# Altium schematic symbol library WE-SPXO.SchLib: 233 symbols (part 2 of 4)
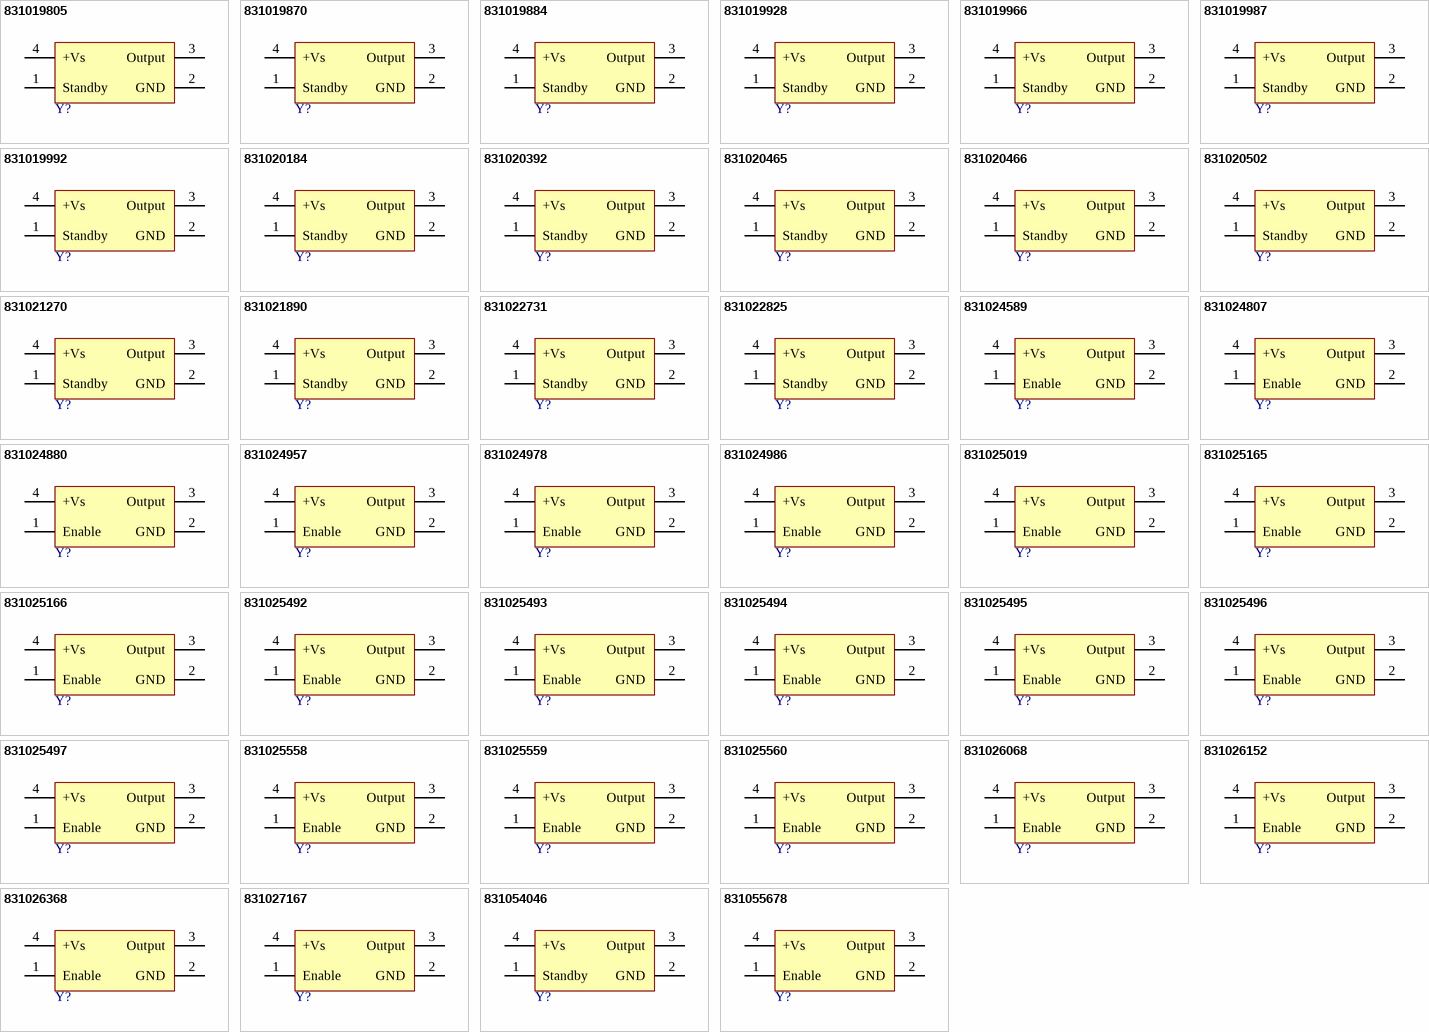
[diagram p6: symbols 831019805 to 831055678]

## 831024986
designator Y?, comment 24MHz, 3.3V  (value not drawn)
WE-SPXO Simple Packaged Quartz Oscillator, SMT, CFPS-9, 24MHz, 3.3V; Manufacturer Part Number: 831024986; Manufacturer: Wurth Elektronik; Frequency Stability: +/-50ppm; ComponentLink1Description: Website Link; ComponentLink1URL: https://www.we-online.com/redexpert/article/831024986?ad; ComponentLink2Description: Datasheet Link; ComponentLink2URL: https://www.we-online.com/redexpert/spec/831024986?ad; Category: Oscillators; Match Code: WE-SPXO; Mount: Surface Mount; Operating Temperature Max: 85°C; Operating Temperature Min: -40°C; Packaging: Tape and Reel; Case/Size Code: CFPS-9; Length: 5.2mm; Width: 3.4mm; Height: 1.3mm; Frequency: 24MHz; Supply Voltage: 3.3V
footprint WE-SPXO_CFPS-9
pins: 1 Enable, 2 GND, 3 Output, 4 +Vs

## 831025019
designator Y?, comment 32MHz, 3.3V  (value not drawn)
WE-SPXO Simple Packaged Quartz Oscillator, SMT, CFPS-39, 32MHz, 3.3V; Manufacturer Part Number: 831025019; Manufacturer: Wurth Elektronik; Frequency Stability: +/-50ppm; ComponentLink1Description: Website Link; ComponentLink1URL: https://www.we-online.com/redexpert/article/831025019?ad; ComponentLink2Description: Datasheet Link; ComponentLink2URL: https://www.we-online.com/redexpert/spec/831025019?ad; Category: Oscillators; Match Code: WE-SPXO; Mount: Surface Mount; Operating Temperature Max: 85°C; Operating Temperature Min: -40°C; Packaging: Tape and Reel; Case/Size Code: CFPS-39; Length: 3.2mm; Width: 2.5mm; Height: 1.2mm; Frequency: 32MHz; Supply Voltage: 3.3V
footprint WE-SPXO_CFPS-39
pins: 1 Enable, 2 GND, 3 Output, 4 +Vs

## 831025165
designator Y?, comment 25MHz, 3.3V  (value not drawn)
WE-SPXO Simple Packaged Quartz Oscillator, SMT, CFPS-39, 25MHz, 3.3V; Manufacturer Part Number: 831025165; Manufacturer: Wurth Elektronik; Frequency Stability: +/-50ppm; ComponentLink1Description: Website Link; ComponentLink1URL: https://www.we-online.com/redexpert/article/831025165?ad; ComponentLink2Description: Datasheet Link; ComponentLink2URL: https://www.we-online.com/redexpert/spec/831025165?ad; Category: Oscillators; Match Code: WE-SPXO; Mount: Surface Mount; Operating Temperature Max: 85°C; Operating Temperature Min: -40°C; Packaging: Tape and Reel; Case/Size Code: CFPS-39; Length: 3.2mm; Width: 2.5mm; Height: 1.2mm; Frequency: 25MHz; Supply Voltage: 3.3V
footprint WE-SPXO_CFPS-39
pins: 1 Enable, 2 GND, 3 Output, 4 +Vs

## 831025166
designator Y?, comment 48MHz, 3.3V  (value not drawn)
WE-SPXO Simple Packaged Quartz Oscillator, SMT, CFPS-39, 48MHz, 3.3V; Manufacturer Part Number: 831025166; Manufacturer: Wurth Elektronik; Frequency Stability: +/-50ppm; ComponentLink1Description: Website Link; ComponentLink1URL: https://www.we-online.com/redexpert/article/831025166?ad; ComponentLink2Description: Datasheet Link; ComponentLink2URL: https://www.we-online.com/redexpert/spec/831025166?ad; Category: Oscillators; Match Code: WE-SPXO; Mount: Surface Mount; Operating Temperature Max: 85°C; Operating Temperature Min: -40°C; Packaging: Tape and Reel; Case/Size Code: CFPS-39; Length: 3.2mm; Width: 2.5mm; Height: 1.2mm; Frequency: 48MHz; Supply Voltage: 3.3V
footprint WE-SPXO_CFPS-39
pins: 1 Enable, 2 GND, 3 Output, 4 +Vs

## 831025492
designator Y?, comment 12MHz, 3.3V  (value not drawn)
WE-SPXO Simple Packaged Quartz Oscillator, SMT, CFPS-39, 12MHz, 3.3V; Manufacturer Part Number: 831025492; Manufacturer: Wurth Elektronik; Frequency Stability: +/-50ppm; ComponentLink1Description: Website Link; ComponentLink1URL: https://www.we-online.com/redexpert/article/831025492?ad; ComponentLink2Description: Datasheet Link; ComponentLink2URL: https://www.we-online.com/redexpert/spec/831025492?ad; Category: Oscillators; Match Code: WE-SPXO; Mount: Surface Mount; Operating Temperature Max: 85°C; Operating Temperature Min: -40°C; Packaging: Tape and Reel; Case/Size Code: CFPS-39; Length: 3.2mm; Width: 2.5mm; Height: 1.2mm; Frequency: 12MHz; Supply Voltage: 3.3V
footprint WE-SPXO_CFPS-39
pins: 1 Enable, 2 GND, 3 Output, 4 +Vs

## 831025493
designator Y?, comment 14.31818MHz, 3.3V  (value not drawn)
WE-SPXO Simple Packaged Quartz Oscillator, SMT, CFPS-39, 14.31818MHz, 3.3V; Manufacturer Part Number: 831025493; Manufacturer: Wurth Elektronik; Frequency Stability: +/-50ppm; ComponentLink1Description: Website Link; ComponentLink1URL: https://www.we-online.com/redexpert/article/831025493?ad; ComponentLink2Description: Datasheet Link; ComponentLink2URL: https://www.we-online.com/redexpert/spec/831025493?ad; Category: Oscillators; Match Code: WE-SPXO; Mount: Surface Mount; Operating Temperature Max: 85°C; Operating Temperature Min: -40°C; Packaging: Tape and Reel; Case/Size Code: CFPS-39; Length: 3.2mm; Width: 2.5mm; Height: 1.2mm; Frequency: 14.31818MHz; Supply Voltage: 3.3V
footprint WE-SPXO_CFPS-39
pins: 1 Enable, 2 GND, 3 Output, 4 +Vs

## 831025494
designator Y?, comment 16MHz, 3.3V  (value not drawn)
WE-SPXO Simple Packaged Quartz Oscillator, SMT, CFPS-39, 16MHz, 3.3V; Manufacturer Part Number: 831025494; Manufacturer: Wurth Elektronik; Frequency Stability: +/-50ppm; ComponentLink1Description: Website Link; ComponentLink1URL: https://www.we-online.com/redexpert/article/831025494?ad; ComponentLink2Description: Datasheet Link; ComponentLink2URL: https://www.we-online.com/redexpert/spec/831025494?ad; Category: Oscillators; Match Code: WE-SPXO; Mount: Surface Mount; Operating Temperature Max: 85°C; Operating Temperature Min: -40°C; Packaging: Tape and Reel; Case/Size Code: CFPS-39; Length: 3.2mm; Width: 2.5mm; Height: 1.2mm; Frequency: 16MHz; Supply Voltage: 3.3V
footprint WE-SPXO_CFPS-39
pins: 1 Enable, 2 GND, 3 Output, 4 +Vs

## 831025495
designator Y?, comment 20MHz, 3.3V  (value not drawn)
WE-SPXO Simple Packaged Quartz Oscillator, SMT, CFPS-39, 20MHz, 3.3V; Manufacturer Part Number: 831025495; Manufacturer: Wurth Elektronik; Frequency Stability: +/-50ppm; ComponentLink1Description: Website Link; ComponentLink1URL: https://www.we-online.com/redexpert/article/831025495?ad; ComponentLink2Description: Datasheet Link; ComponentLink2URL: https://www.we-online.com/redexpert/spec/831025495?ad; Category: Oscillators; Match Code: WE-SPXO; Mount: Surface Mount; Operating Temperature Max: 85°C; Operating Temperature Min: -40°C; Packaging: Tape and Reel; Case/Size Code: CFPS-39; Length: 3.2mm; Width: 2.5mm; Height: 1.2mm; Frequency: 20MHz; Supply Voltage: 3.3V
footprint WE-SPXO_CFPS-39
pins: 1 Enable, 2 GND, 3 Output, 4 +Vs

## 831025496
designator Y?, comment 24.576MHz, 3.3V  (value not drawn)
WE-SPXO Simple Packaged Quartz Oscillator, SMT, CFPS-39, 24.576MHz, 3.3V; Manufacturer Part Number: 831025496; Manufacturer: Wurth Elektronik; Frequency Stability: +/-50ppm; ComponentLink1Description: Website Link; ComponentLink1URL: https://www.we-online.com/redexpert/article/831025496?ad; ComponentLink2Description: Datasheet Link; ComponentLink2URL: https://www.we-online.com/redexpert/spec/831025496?ad; Category: Oscillators; Match Code: WE-SPXO; Mount: Surface Mount; Operating Temperature Max: 85°C; Operating Temperature Min: -40°C; Packaging: Tape and Reel; Case/Size Code: CFPS-39; Length: 3.2mm; Width: 2.5mm; Height: 1.2mm; Frequency: 24.576MHz; Supply Voltage: 3.3V
footprint WE-SPXO_CFPS-39
pins: 1 Enable, 2 GND, 3 Output, 4 +Vs

## 831025497
designator Y?, comment 30MHz, 3.3V  (value not drawn)
WE-SPXO Simple Packaged Quartz Oscillator, SMT, CFPS-39, 30MHz, 3.3V; Manufacturer Part Number: 831025497; Manufacturer: Wurth Elektronik; Frequency Stability: +/-50ppm; ComponentLink1Description: Website Link; ComponentLink1URL: https://www.we-online.com/redexpert/article/831025497?ad; ComponentLink2Description: Datasheet Link; ComponentLink2URL: https://www.we-online.com/redexpert/spec/831025497?ad; Category: Oscillators; Match Code: WE-SPXO; Mount: Surface Mount; Operating Temperature Max: 85°C; Operating Temperature Min: -40°C; Packaging: Tape and Reel; Case/Size Code: CFPS-39; Length: 3.2mm; Width: 2.5mm; Height: 1.2mm; Frequency: 30MHz; Supply Voltage: 3.3V
footprint WE-SPXO_CFPS-39
pins: 1 Enable, 2 GND, 3 Output, 4 +Vs

## 831025558
designator Y?, comment 24MHz, 3.3V  (value not drawn)
WE-SPXO Simple Packaged Quartz Oscillator, SMT, CFPS-39, 24MHz, 3.3V; Manufacturer Part Number: 831025558; Manufacturer: Wurth Elektronik; Frequency Stability: +/-50ppm; ComponentLink1Description: Website Link; ComponentLink1URL: https://www.we-online.com/redexpert/article/831025558?ad; ComponentLink2Description: Datasheet Link; ComponentLink2URL: https://www.we-online.com/redexpert/spec/831025558?ad; Category: Oscillators; Match Code: WE-SPXO; Mount: Surface Mount; Operating Temperature Max: 85°C; Operating Temperature Min: -40°C; Packaging: Tape and Reel; Case/Size Code: CFPS-39; Length: 3.2mm; Width: 2.5mm; Height: 1.2mm; Frequency: 24MHz; Supply Voltage: 3.3V
footprint WE-SPXO_CFPS-39
pins: 1 Enable, 2 GND, 3 Output, 4 +Vs

## 831025559
designator Y?, comment 40MHz, 3.3V  (value not drawn)
WE-SPXO Simple Packaged Quartz Oscillator, SMT, CFPS-39, 40MHz, 3.3V; Manufacturer Part Number: 831025559; Manufacturer: Wurth Elektronik; Frequency Stability: +/-50ppm; ComponentLink1Description: Website Link; ComponentLink1URL: https://www.we-online.com/redexpert/article/831025559?ad; ComponentLink2Description: Datasheet Link; ComponentLink2URL: https://www.we-online.com/redexpert/spec/831025559?ad; Category: Oscillators; Match Code: WE-SPXO; Mount: Surface Mount; Operating Temperature Max: 85°C; Operating Temperature Min: -40°C; Packaging: Tape and Reel; Case/Size Code: CFPS-39; Length: 3.2mm; Width: 2.5mm; Height: 1.2mm; Frequency: 40MHz; Supply Voltage: 3.3V
footprint WE-SPXO_CFPS-39
pins: 1 Enable, 2 GND, 3 Output, 4 +Vs

## 831025560
designator Y?, comment 50MHz, 3.3V  (value not drawn)
WE-SPXO Simple Packaged Quartz Oscillator, SMT, CFPS-39, 50MHz, 3.3V; Manufacturer Part Number: 831025560; Manufacturer: Wurth Elektronik; Frequency Stability: +/-50ppm; ComponentLink1Description: Website Link; ComponentLink1URL: https://www.we-online.com/redexpert/article/831025560?ad; ComponentLink2Description: Datasheet Link; ComponentLink2URL: https://www.we-online.com/redexpert/spec/831025560?ad; Category: Oscillators; Match Code: WE-SPXO; Mount: Surface Mount; Operating Temperature Max: 85°C; Operating Temperature Min: -40°C; Packaging: Tape and Reel; Case/Size Code: CFPS-39; Length: 3.2mm; Width: 2.5mm; Height: 1.2mm; Frequency: 50MHz; Supply Voltage: 3.3V
footprint WE-SPXO_CFPS-39
pins: 1 Enable, 2 GND, 3 Output, 4 +Vs

## 831026068
designator Y?, comment 40MHz, 3.3V  (value not drawn)
WE-SPXO Simple Packaged Quartz Oscillator, SMT, CFPS-9, 40MHz, 3.3V; Manufacturer Part Number: 831026068; Manufacturer: Wurth Elektronik; Frequency Stability: +/-50ppm; ComponentLink1Description: Website Link; ComponentLink1URL: https://www.we-online.com/redexpert/article/831026068?ad; ComponentLink2Description: Datasheet Link; ComponentLink2URL: https://www.we-online.com/redexpert/spec/831026068?ad; Category: Oscillators; Match Code: WE-SPXO; Mount: Surface Mount; Operating Temperature Max: 85°C; Operating Temperature Min: -40°C; Packaging: Tape and Reel; Case/Size Code: CFPS-9; Length: 5.2mm; Width: 3.4mm; Height: 1.3mm; Frequency: 40MHz; Supply Voltage: 3.3V
footprint WE-SPXO_CFPS-9
pins: 1 Enable, 2 GND, 3 Output, 4 +Vs

## 831026152
designator Y?, comment 12MHz, 3.3V  (value not drawn)
WE-SPXO Simple Packaged Quartz Oscillator, SMT, CFPS-9, 12MHz, 3.3V; Manufacturer Part Number: 831026152; Manufacturer: Wurth Elektronik; Frequency Stability: +/-50ppm; ComponentLink1Description: Website Link; ComponentLink1URL: https://www.we-online.com/redexpert/article/831026152?ad; ComponentLink2Description: Datasheet Link; ComponentLink2URL: https://www.we-online.com/redexpert/spec/831026152?ad; Category: Oscillators; Match Code: WE-SPXO; Mount: Surface Mount; Operating Temperature Max: 85°C; Operating Temperature Min: -40°C; Packaging: Tape and Reel; Case/Size Code: CFPS-9; Length: 5.2mm; Width: 3.4mm; Height: 1.3mm; Frequency: 12MHz; Supply Voltage: 3.3V
footprint WE-SPXO_CFPS-9
pins: 1 Enable, 2 GND, 3 Output, 4 +Vs

## 831026368
designator Y?, comment 27MHz, 3.3V  (value not drawn)
WE-SPXO Simple Packaged Quartz Oscillator, SMT, CFPS-39, 27MHz, 3.3V; Manufacturer Part Number: 831026368; Manufacturer: Wurth Elektronik; Frequency Stability: +/-50ppm; ComponentLink1Description: Website Link; ComponentLink1URL: https://www.we-online.com/redexpert/article/831026368?ad; ComponentLink2Description: Datasheet Link; ComponentLink2URL: https://www.we-online.com/redexpert/spec/831026368?ad; Category: Oscillators; Match Code: WE-SPXO; Mount: Surface Mount; Operating Temperature Max: 85°C; Operating Temperature Min: -40°C; Packaging: Tape and Reel; Case/Size Code: CFPS-39; Length: 3.2mm; Width: 2.5mm; Height: 1.2mm; Frequency: 27MHz; Supply Voltage: 3.3V
footprint WE-SPXO_CFPS-39
pins: 1 Enable, 2 GND, 3 Output, 4 +Vs

## 831027167
designator Y?, comment 26MHz, 3.3V  (value not drawn)
WE-SPXO Simple Packaged Quartz Oscillator, SMT, CFPS-39, 26MHz, 3.3V; Manufacturer Part Number: 831027167; Manufacturer: Wurth Elektronik; Frequency Stability: +/-50ppm; ComponentLink1Description: Website Link; ComponentLink1URL: https://www.we-online.com/redexpert/article/831027167?ad; ComponentLink2Description: Datasheet Link; ComponentLink2URL: https://www.we-online.com/redexpert/spec/831027167?ad; Category: Oscillators; Match Code: WE-SPXO; Mount: Surface Mount; Operating Temperature Max: 85°C; Operating Temperature Min: -40°C; Packaging: Tape and Reel; Case/Size Code: CFPS-39; Length: 3.2mm; Width: 2.5mm; Height: 1.2mm; Frequency: 26MHz; Supply Voltage: 3.3V
footprint WE-SPXO_CFPS-39
pins: 1 Enable, 2 GND, 3 Output, 4 +Vs

## 831054046
designator Y?, comment 10MHz, 3.3V  (value not drawn)
WE-SPXO Simple Packaged Quartz Oscillator, SMT, IQXO-540, 10MHz, 3.3V; Manufacturer Part Number: 831054046; Manufacturer: Wurth Elektronik; Frequency Stability: +/-50ppm; ComponentLink1Description: Website Link; ComponentLink1URL: https://www.we-online.com/redexpert/article/831054046?ad; ComponentLink2Description: Datasheet Link; ComponentLink2URL: https://www.we-online.com/redexpert/spec/831054046?ad; Category: Oscillators; Match Code: WE-SPXO; Mount: Surface Mount; Operating Temperature Max: 85°C; Operating Temperature Min: -40°C; Packaging: Tape and Reel; Case/Size Code: IQXO-540; Length: 2mm; Width: 1.6mm; Height: 0.7mm; Frequency: 10MHz; Supply Voltage: 3.3V
footprint WE-SPXO_IQXO-540
pins: 1 Standby, 2 GND, 3 Output, 4 +Vs

## 831055678
designator Y?, comment 25MHz, 3.3V  (value not drawn)
WE-SPXO Simple Packaged Quartz Oscillator, SMT, CFPS-39, 25MHz, 3.3V; Manufacturer Part Number: 831055678; Manufacturer: Wurth Elektronik; Frequency Stability: +/-25ppm; ComponentLink1Description: Website Link; ComponentLink1URL: https://www.we-online.com/redexpert/article/831055678?ad; ComponentLink2Description: Datasheet Link; ComponentLink2URL: https://www.we-online.com/redexpert/spec/831055678?ad; Category: Oscillators; Match Code: WE-SPXO; Mount: Surface Mount; Operating Temperature Max: 85°C; Operating Temperature Min: -40°C; Packaging: Tape and Reel; Case/Size Code: CFPS-39; Length: 3.2mm; Width: 2.5mm; Height: 1.2mm; Frequency: 25MHz; Supply Voltage: 3.3V
footprint WE-SPXO_CFPS-39
pins: 1 Enable, 2 GND, 3 Output, 4 +Vs

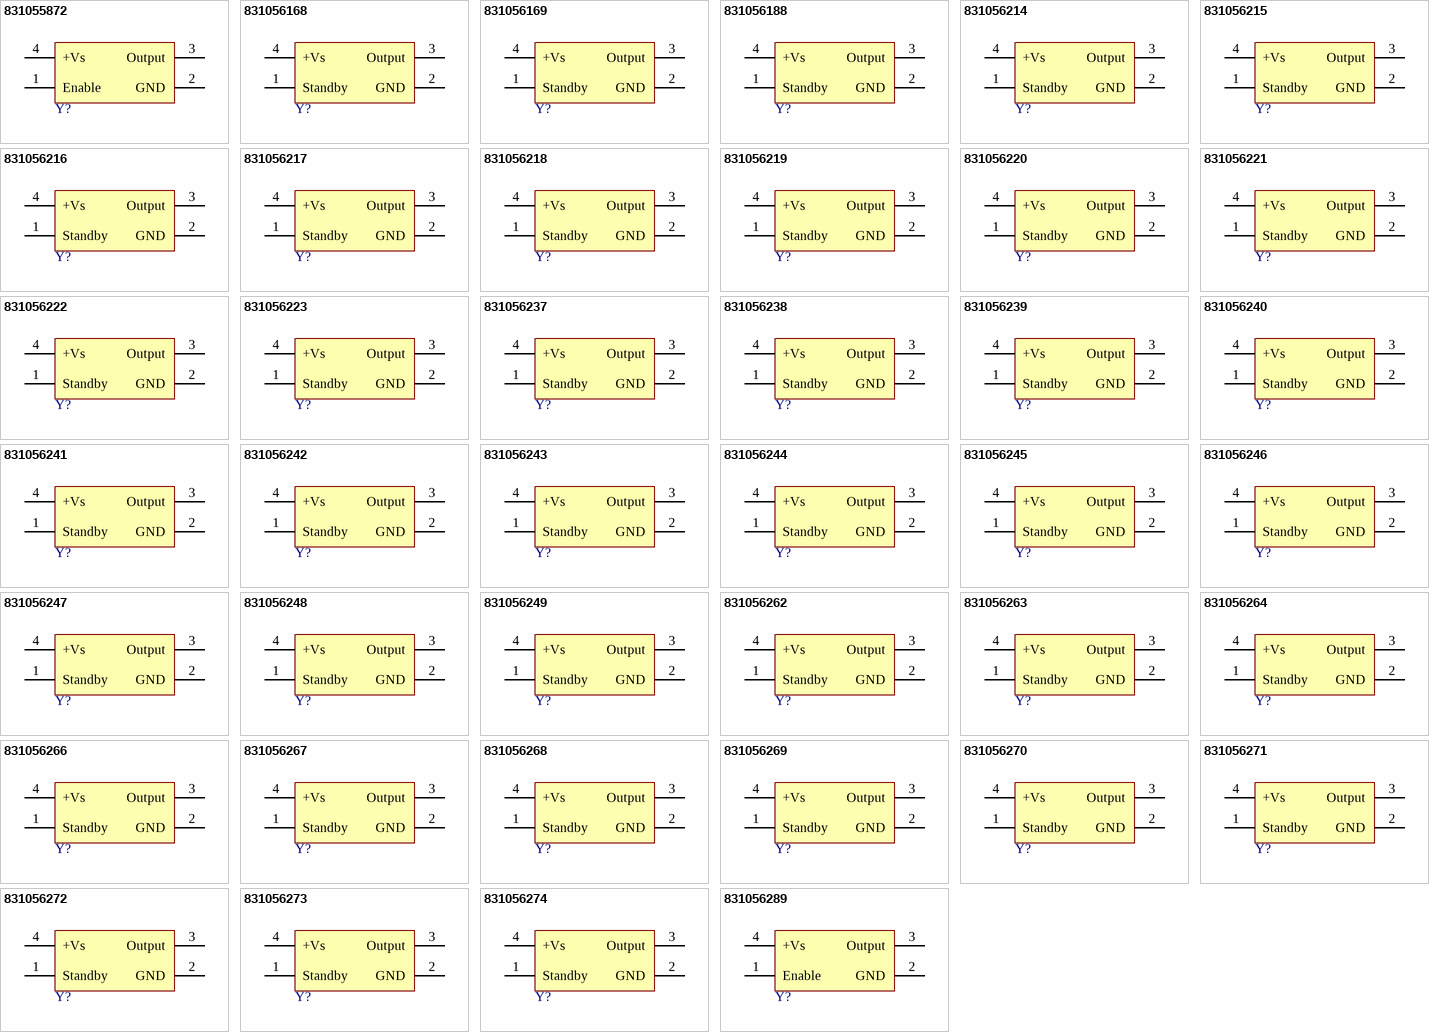
[diagram p2: symbols 831055872 to 831056289]

## 831055872
designator Y?, comment 50MHz, 3.3V  (value not drawn)
WE-SPXO Simple Packaged Quartz Oscillator, SMT, CFPS-39, 50MHz, 3.3V; Manufacturer Part Number: 831055872; Manufacturer: Wurth Elektronik; Frequency Stability: +/-25ppm; ComponentLink1Description: Website Link; ComponentLink1URL: https://www.we-online.com/redexpert/article/831055872?ad; ComponentLink2Description: Datasheet Link; ComponentLink2URL: https://www.we-online.com/redexpert/spec/831055872?ad; Category: Oscillators; Match Code: WE-SPXO; Mount: Surface Mount; Operating Temperature Max: 85°C; Operating Temperature Min: -40°C; Packaging: Tape and Reel; Case/Size Code: CFPS-39; Length: 3.2mm; Width: 2.5mm; Height: 1.2mm; Frequency: 50MHz; Supply Voltage: 3.3V
footprint WE-SPXO_CFPS-39
pins: 1 Enable, 2 GND, 3 Output, 4 +Vs

## 831056168
designator Y?, comment 12MHz, 1.8V  (value not drawn)
WE-SPXO Simple Packaged Quartz Oscillator, SMT, IQXO-542, 12MHz, 1.8V; Manufacturer Part Number: 831056168; Manufacturer: Wurth Elektronik; Frequency Stability: +/-50ppm; ComponentLink1Description: Website Link; ComponentLink1URL: https://www.we-online.com/redexpert/article/831056168?ad; ComponentLink2Description: Datasheet Link; ComponentLink2URL: https://www.we-online.com/redexpert/spec/831056168?ad; Category: Oscillators; Match Code: WE-SPXO; Mount: Surface Mount; Operating Temperature Max: 85°C; Operating Temperature Min: -40°C; Packaging: Tape and Reel; Case/Size Code: IQXO-542; Length: 2mm; Width: 1.6mm; Height: 0.7mm; Frequency: 12MHz; Supply Voltage: 1.8V
footprint WE-SPXO_IQXO-542
pins: 1 Standby, 2 GND, 3 Output, 4 +Vs

## 831056169
designator Y?, comment 13MHz, 1.8V  (value not drawn)
WE-SPXO Simple Packaged Quartz Oscillator, SMT, IQXO-542, 13MHz, 1.8V; Manufacturer Part Number: 831056169; Manufacturer: Wurth Elektronik; Frequency Stability: +/-50ppm; ComponentLink1Description: Website Link; ComponentLink1URL: https://www.we-online.com/redexpert/article/831056169?ad; ComponentLink2Description: Datasheet Link; ComponentLink2URL: https://www.we-online.com/redexpert/spec/831056169?ad; Category: Oscillators; Match Code: WE-SPXO; Mount: Surface Mount; Operating Temperature Max: 85°C; Operating Temperature Min: -40°C; Packaging: Tape and Reel; Case/Size Code: IQXO-542; Length: 2mm; Width: 1.6mm; Height: 0.7mm; Frequency: 13MHz; Supply Voltage: 1.8V
footprint WE-SPXO_IQXO-542
pins: 1 Standby, 2 GND, 3 Output, 4 +Vs

## 831056188
designator Y?, comment 19.2MHz, 1.8V  (value not drawn)
WE-SPXO Simple Packaged Quartz Oscillator, SMT, IQXO-542, 19.2MHz, 1.8V; Manufacturer Part Number: 831056188; Manufacturer: Wurth Elektronik; Frequency Stability: +/-50ppm; ComponentLink1Description: Website Link; ComponentLink1URL: https://www.we-online.com/redexpert/article/831056188?ad; ComponentLink2Description: Datasheet Link; ComponentLink2URL: https://www.we-online.com/redexpert/spec/831056188?ad; Category: Oscillators; Match Code: WE-SPXO; Mount: Surface Mount; Operating Temperature Max: 85°C; Operating Temperature Min: -40°C; Packaging: Tape and Reel; Case/Size Code: IQXO-542; Length: 2mm; Width: 1.6mm; Height: 0.7mm; Frequency: 19.2MHz; Supply Voltage: 1.8V
footprint WE-SPXO_IQXO-542
pins: 1 Standby, 2 GND, 3 Output, 4 +Vs

## 831056214
designator Y?, comment 19.44MHz, 1.8V  (value not drawn)
WE-SPXO Simple Packaged Quartz Oscillator, SMT, IQXO-542, 19.44MHz, 1.8V; Manufacturer Part Number: 831056214; Manufacturer: Wurth Elektronik; Frequency Stability: +/-50ppm; ComponentLink1Description: Website Link; ComponentLink1URL: https://www.we-online.com/redexpert/article/831056214?ad; ComponentLink2Description: Datasheet Link; ComponentLink2URL: https://www.we-online.com/redexpert/spec/831056214?ad; Category: Oscillators; Match Code: WE-SPXO; Mount: Surface Mount; Operating Temperature Max: 85°C; Operating Temperature Min: -40°C; Packaging: Tape and Reel; Case/Size Code: IQXO-542; Length: 2mm; Width: 1.6mm; Height: 0.7mm; Frequency: 19.44MHz; Supply Voltage: 1.8V
footprint WE-SPXO_IQXO-542
pins: 1 Standby, 2 GND, 3 Output, 4 +Vs

## 831056215
designator Y?, comment 20MHz, 1.8V  (value not drawn)
WE-SPXO Simple Packaged Quartz Oscillator, SMT, IQXO-542, 20MHz, 1.8V; Manufacturer Part Number: 831056215; Manufacturer: Wurth Elektronik; Frequency Stability: +/-50ppm; ComponentLink1Description: Website Link; ComponentLink1URL: https://www.we-online.com/redexpert/article/831056215?ad; ComponentLink2Description: Datasheet Link; ComponentLink2URL: https://www.we-online.com/redexpert/spec/831056215?ad; Category: Oscillators; Match Code: WE-SPXO; Mount: Surface Mount; Operating Temperature Max: 85°C; Operating Temperature Min: -40°C; Packaging: Tape and Reel; Case/Size Code: IQXO-542; Length: 2mm; Width: 1.6mm; Height: 0.7mm; Frequency: 20MHz; Supply Voltage: 1.8V
footprint WE-SPXO_IQXO-542
pins: 1 Standby, 2 GND, 3 Output, 4 +Vs

## 831056216
designator Y?, comment 24MHz, 1.8V  (value not drawn)
WE-SPXO Simple Packaged Quartz Oscillator, SMT, IQXO-542, 24MHz, 1.8V; Manufacturer Part Number: 831056216; Manufacturer: Wurth Elektronik; Frequency Stability: +/-50ppm; ComponentLink1Description: Website Link; ComponentLink1URL: https://www.we-online.com/redexpert/article/831056216?ad; ComponentLink2Description: Datasheet Link; ComponentLink2URL: https://www.we-online.com/redexpert/spec/831056216?ad; Category: Oscillators; Match Code: WE-SPXO; Mount: Surface Mount; Operating Temperature Max: 85°C; Operating Temperature Min: -40°C; Packaging: Tape and Reel; Case/Size Code: IQXO-542; Length: 2mm; Width: 1.6mm; Height: 0.7mm; Frequency: 24MHz; Supply Voltage: 1.8V
footprint WE-SPXO_IQXO-542
pins: 1 Standby, 2 GND, 3 Output, 4 +Vs

## 831056217
designator Y?, comment 24.576MHz, 1.8V  (value not drawn)
WE-SPXO Simple Packaged Quartz Oscillator, SMT, IQXO-542, 24.576MHz, 1.8V; Manufacturer Part Number: 831056217; Manufacturer: Wurth Elektronik; Frequency Stability: +/-50ppm; ComponentLink1Description: Website Link; ComponentLink1URL: https://www.we-online.com/redexpert/article/831056217?ad; ComponentLink2Description: Datasheet Link; ComponentLink2URL: https://www.we-online.com/redexpert/spec/831056217?ad; Category: Oscillators; Match Code: WE-SPXO; Mount: Surface Mount; Operating Temperature Max: 85°C; Operating Temperature Min: -40°C; Packaging: Tape and Reel; Case/Size Code: IQXO-542; Length: 2mm; Width: 1.6mm; Height: 0.7mm; Frequency: 24.576MHz; Supply Voltage: 1.8V
footprint WE-SPXO_IQXO-542
pins: 1 Standby, 2 GND, 3 Output, 4 +Vs

## 831056218
designator Y?, comment 25MHz, 1.8V  (value not drawn)
WE-SPXO Simple Packaged Quartz Oscillator, SMT, IQXO-542, 25MHz, 1.8V; Manufacturer Part Number: 831056218; Manufacturer: Wurth Elektronik; Frequency Stability: +/-50ppm; ComponentLink1Description: Website Link; ComponentLink1URL: https://www.we-online.com/redexpert/article/831056218?ad; ComponentLink2Description: Datasheet Link; ComponentLink2URL: https://www.we-online.com/redexpert/spec/831056218?ad; Category: Oscillators; Match Code: WE-SPXO; Mount: Surface Mount; Operating Temperature Max: 85°C; Operating Temperature Min: -40°C; Packaging: Tape and Reel; Case/Size Code: IQXO-542; Length: 2mm; Width: 1.6mm; Height: 0.7mm; Frequency: 25MHz; Supply Voltage: 1.8V
footprint WE-SPXO_IQXO-542
pins: 1 Standby, 2 GND, 3 Output, 4 +Vs

## 831056219
designator Y?, comment 26MHz, 1.8V  (value not drawn)
WE-SPXO Simple Packaged Quartz Oscillator, SMT, IQXO-542, 26MHz, 1.8V; Manufacturer Part Number: 831056219; Manufacturer: Wurth Elektronik; Frequency Stability: +/-50ppm; ComponentLink1Description: Website Link; ComponentLink1URL: https://www.we-online.com/redexpert/article/831056219?ad; ComponentLink2Description: Datasheet Link; ComponentLink2URL: https://www.we-online.com/redexpert/spec/831056219?ad; Category: Oscillators; Match Code: WE-SPXO; Mount: Surface Mount; Operating Temperature Max: 85°C; Operating Temperature Min: -40°C; Packaging: Tape and Reel; Case/Size Code: IQXO-542; Length: 2mm; Width: 1.6mm; Height: 0.7mm; Frequency: 26MHz; Supply Voltage: 1.8V
footprint WE-SPXO_IQXO-542
pins: 1 Standby, 2 GND, 3 Output, 4 +Vs

## 831056220
designator Y?, comment 27MHz, 1.8V  (value not drawn)
WE-SPXO Simple Packaged Quartz Oscillator, SMT, IQXO-542, 27MHz, 1.8V; Manufacturer Part Number: 831056220; Manufacturer: Wurth Elektronik; Frequency Stability: +/-50ppm; ComponentLink1Description: Website Link; ComponentLink1URL: https://www.we-online.com/redexpert/article/831056220?ad; ComponentLink2Description: Datasheet Link; ComponentLink2URL: https://www.we-online.com/redexpert/spec/831056220?ad; Category: Oscillators; Match Code: WE-SPXO; Mount: Surface Mount; Operating Temperature Max: 85°C; Operating Temperature Min: -40°C; Packaging: Tape and Reel; Case/Size Code: IQXO-542; Length: 2mm; Width: 1.6mm; Height: 0.7mm; Frequency: 27MHz; Supply Voltage: 1.8V
footprint WE-SPXO_IQXO-542
pins: 1 Standby, 2 GND, 3 Output, 4 +Vs

## 831056221
designator Y?, comment 40MHz, 1.8V  (value not drawn)
WE-SPXO Simple Packaged Quartz Oscillator, SMT, IQXO-542, 40MHz, 1.8V; Manufacturer Part Number: 831056221; Manufacturer: Wurth Elektronik; Frequency Stability: +/-50ppm; ComponentLink1Description: Website Link; ComponentLink1URL: https://www.we-online.com/redexpert/article/831056221?ad; ComponentLink2Description: Datasheet Link; ComponentLink2URL: https://www.we-online.com/redexpert/spec/831056221?ad; Category: Oscillators; Match Code: WE-SPXO; Mount: Surface Mount; Operating Temperature Max: 85°C; Operating Temperature Min: -40°C; Packaging: Tape and Reel; Case/Size Code: IQXO-542; Length: 2mm; Width: 1.6mm; Height: 0.7mm; Frequency: 40MHz; Supply Voltage: 1.8V
footprint WE-SPXO_IQXO-542
pins: 1 Standby, 2 GND, 3 Output, 4 +Vs

## 831056222
designator Y?, comment 48MHz, 1.8V  (value not drawn)
WE-SPXO Simple Packaged Quartz Oscillator, SMT, IQXO-542, 48MHz, 1.8V; Manufacturer Part Number: 831056222; Manufacturer: Wurth Elektronik; Frequency Stability: +/-50ppm; ComponentLink1Description: Website Link; ComponentLink1URL: https://www.we-online.com/redexpert/article/831056222?ad; ComponentLink2Description: Datasheet Link; ComponentLink2URL: https://www.we-online.com/redexpert/spec/831056222?ad; Category: Oscillators; Match Code: WE-SPXO; Mount: Surface Mount; Operating Temperature Max: 85°C; Operating Temperature Min: -40°C; Packaging: Tape and Reel; Case/Size Code: IQXO-542; Length: 2mm; Width: 1.6mm; Height: 0.7mm; Frequency: 48MHz; Supply Voltage: 1.8V
footprint WE-SPXO_IQXO-542
pins: 1 Standby, 2 GND, 3 Output, 4 +Vs

## 831056223
designator Y?, comment 50MHz, 1.8V  (value not drawn)
WE-SPXO Simple Packaged Quartz Oscillator, SMT, IQXO-542, 50MHz, 1.8V; Manufacturer Part Number: 831056223; Manufacturer: Wurth Elektronik; Frequency Stability: +/-50ppm; ComponentLink1Description: Website Link; ComponentLink1URL: https://www.we-online.com/redexpert/article/831056223?ad; ComponentLink2Description: Datasheet Link; ComponentLink2URL: https://www.we-online.com/redexpert/spec/831056223?ad; Category: Oscillators; Match Code: WE-SPXO; Mount: Surface Mount; Operating Temperature Max: 85°C; Operating Temperature Min: -40°C; Packaging: Tape and Reel; Case/Size Code: IQXO-542; Length: 2mm; Width: 1.6mm; Height: 0.7mm; Frequency: 50MHz; Supply Voltage: 1.8V
footprint WE-SPXO_IQXO-542
pins: 1 Standby, 2 GND, 3 Output, 4 +Vs

## 831056237
designator Y?, comment 12MHz, 3.3V  (value not drawn)
WE-SPXO Simple Packaged Quartz Oscillator, SMT, IQXO-540, 12MHz, 3.3V; Manufacturer Part Number: 831056237; Manufacturer: Wurth Elektronik; Frequency Stability: +/-50ppm; ComponentLink1Description: Website Link; ComponentLink1URL: https://www.we-online.com/redexpert/article/831056237?ad; ComponentLink2Description: Datasheet Link; ComponentLink2URL: https://www.we-online.com/redexpert/spec/831056237?ad; Category: Oscillators; Match Code: WE-SPXO; Mount: Surface Mount; Operating Temperature Max: 85°C; Operating Temperature Min: -40°C; Packaging: Tape and Reel; Case/Size Code: IQXO-540; Length: 2mm; Width: 1.6mm; Height: 0.7mm; Frequency: 12MHz; Supply Voltage: 3.3V
footprint WE-SPXO_IQXO-540
pins: 1 Standby, 2 GND, 3 Output, 4 +Vs

## 831056238
designator Y?, comment 13MHz, 3.3V  (value not drawn)
WE-SPXO Simple Packaged Quartz Oscillator, SMT, IQXO-540, 13MHz, 3.3V; Manufacturer Part Number: 831056238; Manufacturer: Wurth Elektronik; Frequency Stability: +/-50ppm; ComponentLink1Description: Website Link; ComponentLink1URL: https://www.we-online.com/redexpert/article/831056238?ad; ComponentLink2Description: Datasheet Link; ComponentLink2URL: https://www.we-online.com/redexpert/spec/831056238?ad; Category: Oscillators; Match Code: WE-SPXO; Mount: Surface Mount; Operating Temperature Max: 85°C; Operating Temperature Min: -40°C; Packaging: Tape and Reel; Case/Size Code: IQXO-540; Length: 2mm; Width: 1.6mm; Height: 0.7mm; Frequency: 13MHz; Supply Voltage: 3.3V
footprint WE-SPXO_IQXO-540
pins: 1 Standby, 2 GND, 3 Output, 4 +Vs

## 831056239
designator Y?, comment 19.2MHz, 3.3V  (value not drawn)
WE-SPXO Simple Packaged Quartz Oscillator, SMT, IQXO-540, 19.2MHz, 3.3V; Manufacturer Part Number: 831056239; Manufacturer: Wurth Elektronik; Frequency Stability: +/-50ppm; ComponentLink1Description: Website Link; ComponentLink1URL: https://www.we-online.com/redexpert/article/831056239?ad; ComponentLink2Description: Datasheet Link; ComponentLink2URL: https://www.we-online.com/redexpert/spec/831056239?ad; Category: Oscillators; Match Code: WE-SPXO; Mount: Surface Mount; Operating Temperature Max: 85°C; Operating Temperature Min: -40°C; Packaging: Tape and Reel; Case/Size Code: IQXO-540; Length: 2mm; Width: 1.6mm; Height: 0.7mm; Frequency: 19.2MHz; Supply Voltage: 3.3V
footprint WE-SPXO_IQXO-540
pins: 1 Standby, 2 GND, 3 Output, 4 +Vs

## 831056240
designator Y?, comment 19.44MHz, 3.3V  (value not drawn)
WE-SPXO Simple Packaged Quartz Oscillator, SMT, IQXO-540, 19.44MHz, 3.3V; Manufacturer Part Number: 831056240; Manufacturer: Wurth Elektronik; Frequency Stability: +/-50ppm; ComponentLink1Description: Website Link; ComponentLink1URL: https://www.we-online.com/redexpert/article/831056240?ad; ComponentLink2Description: Datasheet Link; ComponentLink2URL: https://www.we-online.com/redexpert/spec/831056240?ad; Category: Oscillators; Match Code: WE-SPXO; Mount: Surface Mount; Operating Temperature Max: 85°C; Operating Temperature Min: -40°C; Packaging: Tape and Reel; Case/Size Code: IQXO-540; Length: 2mm; Width: 1.6mm; Height: 0.7mm; Frequency: 19.44MHz; Supply Voltage: 3.3V
footprint WE-SPXO_IQXO-540
pins: 1 Standby, 2 GND, 3 Output, 4 +Vs

## 831056241
designator Y?, comment 20MHz, 3.3V  (value not drawn)
WE-SPXO Simple Packaged Quartz Oscillator, SMT, IQXO-540, 20MHz, 3.3V; Manufacturer Part Number: 831056241; Manufacturer: Wurth Elektronik; Frequency Stability: +/-50ppm; ComponentLink1Description: Website Link; ComponentLink1URL: https://www.we-online.com/redexpert/article/831056241?ad; ComponentLink2Description: Datasheet Link; ComponentLink2URL: https://www.we-online.com/redexpert/spec/831056241?ad; Category: Oscillators; Match Code: WE-SPXO; Mount: Surface Mount; Operating Temperature Max: 85°C; Operating Temperature Min: -40°C; Packaging: Tape and Reel; Case/Size Code: IQXO-540; Length: 2mm; Width: 1.6mm; Height: 0.7mm; Frequency: 20MHz; Supply Voltage: 3.3V
footprint WE-SPXO_IQXO-540
pins: 1 Standby, 2 GND, 3 Output, 4 +Vs

## 831056242
designator Y?, comment 24MHz, 3.3V  (value not drawn)
WE-SPXO Simple Packaged Quartz Oscillator, SMT, IQXO-540, 24MHz, 3.3V; Manufacturer Part Number: 831056242; Manufacturer: Wurth Elektronik; Frequency Stability: +/-50ppm; ComponentLink1Description: Website Link; ComponentLink1URL: https://www.we-online.com/redexpert/article/831056242?ad; ComponentLink2Description: Datasheet Link; ComponentLink2URL: https://www.we-online.com/redexpert/spec/831056242?ad; Category: Oscillators; Match Code: WE-SPXO; Mount: Surface Mount; Operating Temperature Max: 85°C; Operating Temperature Min: -40°C; Packaging: Tape and Reel; Case/Size Code: IQXO-540; Length: 2mm; Width: 1.6mm; Height: 0.7mm; Frequency: 24MHz; Supply Voltage: 3.3V
footprint WE-SPXO_IQXO-540
pins: 1 Standby, 2 GND, 3 Output, 4 +Vs

## 831056243
designator Y?, comment 24.576MHz, 3.3V  (value not drawn)
WE-SPXO Simple Packaged Quartz Oscillator, SMT, IQXO-540, 24.576MHz, 3.3V; Manufacturer Part Number: 831056243; Manufacturer: Wurth Elektronik; Frequency Stability: +/-50ppm; ComponentLink1Description: Website Link; ComponentLink1URL: https://www.we-online.com/redexpert/article/831056243?ad; ComponentLink2Description: Datasheet Link; ComponentLink2URL: https://www.we-online.com/redexpert/spec/831056243?ad; Category: Oscillators; Match Code: WE-SPXO; Mount: Surface Mount; Operating Temperature Max: 85°C; Operating Temperature Min: -40°C; Packaging: Tape and Reel; Case/Size Code: IQXO-540; Length: 2mm; Width: 1.6mm; Height: 0.7mm; Frequency: 24.576MHz; Supply Voltage: 3.3V
footprint WE-SPXO_IQXO-540
pins: 1 Standby, 2 GND, 3 Output, 4 +Vs

## 831056244
designator Y?, comment 25MHz, 3.3V  (value not drawn)
WE-SPXO Simple Packaged Quartz Oscillator, SMT, IQXO-540, 25MHz, 3.3V; Manufacturer Part Number: 831056244; Manufacturer: Wurth Elektronik; Frequency Stability: +/-50ppm; ComponentLink1Description: Website Link; ComponentLink1URL: https://www.we-online.com/redexpert/article/831056244?ad; ComponentLink2Description: Datasheet Link; ComponentLink2URL: https://www.we-online.com/redexpert/spec/831056244?ad; Category: Oscillators; Match Code: WE-SPXO; Mount: Surface Mount; Operating Temperature Max: 85°C; Operating Temperature Min: -40°C; Packaging: Tape and Reel; Case/Size Code: IQXO-540; Length: 2mm; Width: 1.6mm; Height: 0.7mm; Frequency: 25MHz; Supply Voltage: 3.3V
footprint WE-SPXO_IQXO-540
pins: 1 Standby, 2 GND, 3 Output, 4 +Vs

## 831056245
designator Y?, comment 26MHz, 3.3V  (value not drawn)
WE-SPXO Simple Packaged Quartz Oscillator, SMT, IQXO-540, 26MHz, 3.3V; Manufacturer Part Number: 831056245; Manufacturer: Wurth Elektronik; Frequency Stability: +/-50ppm; ComponentLink1Description: Website Link; ComponentLink1URL: https://www.we-online.com/redexpert/article/831056245?ad; ComponentLink2Description: Datasheet Link; ComponentLink2URL: https://www.we-online.com/redexpert/spec/831056245?ad; Category: Oscillators; Match Code: WE-SPXO; Mount: Surface Mount; Operating Temperature Max: 85°C; Operating Temperature Min: -40°C; Packaging: Tape and Reel; Case/Size Code: IQXO-540; Length: 2mm; Width: 1.6mm; Height: 0.7mm; Frequency: 26MHz; Supply Voltage: 3.3V
footprint WE-SPXO_IQXO-540
pins: 1 Standby, 2 GND, 3 Output, 4 +Vs

## 831056246
designator Y?, comment 27MHz, 3.3V  (value not drawn)
WE-SPXO Simple Packaged Quartz Oscillator, SMT, IQXO-540, 27MHz, 3.3V; Manufacturer Part Number: 831056246; Manufacturer: Wurth Elektronik; Frequency Stability: +/-50ppm; ComponentLink1Description: Website Link; ComponentLink1URL: https://www.we-online.com/redexpert/article/831056246?ad; ComponentLink2Description: Datasheet Link; ComponentLink2URL: https://www.we-online.com/redexpert/spec/831056246?ad; Category: Oscillators; Match Code: WE-SPXO; Mount: Surface Mount; Operating Temperature Max: 85°C; Operating Temperature Min: -40°C; Packaging: Tape and Reel; Case/Size Code: IQXO-540; Length: 2mm; Width: 1.6mm; Height: 0.7mm; Frequency: 27MHz; Supply Voltage: 3.3V
footprint WE-SPXO_IQXO-540
pins: 1 Standby, 2 GND, 3 Output, 4 +Vs

## 831056247
designator Y?, comment 40MHz, 3.3V  (value not drawn)
WE-SPXO Simple Packaged Quartz Oscillator, SMT, IQXO-540, 40MHz, 3.3V; Manufacturer Part Number: 831056247; Manufacturer: Wurth Elektronik; Frequency Stability: +/-50ppm; ComponentLink1Description: Website Link; ComponentLink1URL: https://www.we-online.com/redexpert/article/831056247?ad; ComponentLink2Description: Datasheet Link; ComponentLink2URL: https://www.we-online.com/redexpert/spec/831056247?ad; Category: Oscillators; Match Code: WE-SPXO; Mount: Surface Mount; Operating Temperature Max: 85°C; Operating Temperature Min: -40°C; Packaging: Tape and Reel; Case/Size Code: IQXO-540; Length: 2mm; Width: 1.6mm; Height: 0.7mm; Frequency: 40MHz; Supply Voltage: 3.3V
footprint WE-SPXO_IQXO-540
pins: 1 Standby, 2 GND, 3 Output, 4 +Vs

## 831056248
designator Y?, comment 48MHz, 3.3V  (value not drawn)
WE-SPXO Simple Packaged Quartz Oscillator, SMT, IQXO-540, 48MHz, 3.3V; Manufacturer Part Number: 831056248; Manufacturer: Wurth Elektronik; Frequency Stability: +/-50ppm; ComponentLink1Description: Website Link; ComponentLink1URL: https://www.we-online.com/redexpert/article/831056248?ad; ComponentLink2Description: Datasheet Link; ComponentLink2URL: https://www.we-online.com/redexpert/spec/831056248?ad; Category: Oscillators; Match Code: WE-SPXO; Mount: Surface Mount; Operating Temperature Max: 85°C; Operating Temperature Min: -40°C; Packaging: Tape and Reel; Case/Size Code: IQXO-540; Length: 2mm; Width: 1.6mm; Height: 0.7mm; Frequency: 48MHz; Supply Voltage: 3.3V
footprint WE-SPXO_IQXO-540
pins: 1 Standby, 2 GND, 3 Output, 4 +Vs

## 831056249
designator Y?, comment 50MHz, 3.3V  (value not drawn)
WE-SPXO Simple Packaged Quartz Oscillator, SMT, IQXO-540, 50MHz, 3.3V; Manufacturer Part Number: 831056249; Manufacturer: Wurth Elektronik; Frequency Stability: +/-50ppm; ComponentLink1Description: Website Link; ComponentLink1URL: https://www.we-online.com/redexpert/article/831056249?ad; ComponentLink2Description: Datasheet Link; ComponentLink2URL: https://www.we-online.com/redexpert/spec/831056249?ad; Category: Oscillators; Match Code: WE-SPXO; Mount: Surface Mount; Operating Temperature Max: 85°C; Operating Temperature Min: -40°C; Packaging: Tape and Reel; Case/Size Code: IQXO-540; Length: 2mm; Width: 1.6mm; Height: 0.7mm; Frequency: 50MHz; Supply Voltage: 3.3V
footprint WE-SPXO_IQXO-540
pins: 1 Standby, 2 GND, 3 Output, 4 +Vs

## 831056262
designator Y?, comment 12MHz, 1.8V  (value not drawn)
WE-SPXO Simple Packaged Quartz Oscillator, SMT, IQXO-794, 12MHz, 1.8V; Manufacturer Part Number: 831056262; Manufacturer: Wurth Elektronik; Frequency Stability: +/-50ppm; ComponentLink1Description: Website Link; ComponentLink1URL: https://www.we-online.com/redexpert/article/831056262?ad; ComponentLink2Description: Datasheet Link; ComponentLink2URL: https://www.we-online.com/redexpert/spec/831056262?ad; Category: Oscillators; Match Code: WE-SPXO; Mount: Surface Mount; Operating Temperature Max: 85°C; Operating Temperature Min: -40°C; Packaging: Tape and Reel; Case/Size Code: IQXO-794; Length: 2.5mm; Width: 2mm; Height: 1mm; Frequency: 12MHz; Supply Voltage: 1.8V
footprint WE-SPXO_IQXO-794
pins: 1 Standby, 2 GND, 3 Output, 4 +Vs

## 831056263
designator Y?, comment 13MHz, 1.8V  (value not drawn)
WE-SPXO Simple Packaged Quartz Oscillator, SMT, IQXO-794, 13MHz, 1.8V; Manufacturer Part Number: 831056263; Manufacturer: Wurth Elektronik; Frequency Stability: +/-50ppm; ComponentLink1Description: Website Link; ComponentLink1URL: https://www.we-online.com/redexpert/article/831056263?ad; ComponentLink2Description: Datasheet Link; ComponentLink2URL: https://www.we-online.com/redexpert/spec/831056263?ad; Category: Oscillators; Match Code: WE-SPXO; Mount: Surface Mount; Operating Temperature Max: 85°C; Operating Temperature Min: -40°C; Packaging: Tape and Reel; Case/Size Code: IQXO-794; Length: 2.5mm; Width: 2mm; Height: 1mm; Frequency: 13MHz; Supply Voltage: 1.8V
footprint WE-SPXO_IQXO-794
pins: 1 Standby, 2 GND, 3 Output, 4 +Vs

## 831056264
designator Y?, comment 19.2MHz, 1.8V  (value not drawn)
WE-SPXO Simple Packaged Quartz Oscillator, SMT, IQXO-794, 19.2MHz, 1.8V; Manufacturer Part Number: 831056264; Manufacturer: Wurth Elektronik; Frequency Stability: +/-50ppm; ComponentLink1Description: Website Link; ComponentLink1URL: https://www.we-online.com/redexpert/article/831056264?ad; ComponentLink2Description: Datasheet Link; ComponentLink2URL: https://www.we-online.com/redexpert/spec/831056264?ad; Category: Oscillators; Match Code: WE-SPXO; Mount: Surface Mount; Operating Temperature Max: 85°C; Operating Temperature Min: -40°C; Packaging: Tape and Reel; Case/Size Code: IQXO-794; Length: 2.5mm; Width: 2mm; Height: 1mm; Frequency: 19.2MHz; Supply Voltage: 1.8V
footprint WE-SPXO_IQXO-794
pins: 1 Standby, 2 GND, 3 Output, 4 +Vs

## 831056266
designator Y?, comment 20MHz, 1.8V  (value not drawn)
WE-SPXO Simple Packaged Quartz Oscillator, SMT, IQXO-794, 20MHz, 1.8V; Manufacturer Part Number: 831056266; Manufacturer: Wurth Elektronik; Frequency Stability: +/-50ppm; ComponentLink1Description: Website Link; ComponentLink1URL: https://www.we-online.com/redexpert/article/831056266?ad; ComponentLink2Description: Datasheet Link; ComponentLink2URL: https://www.we-online.com/redexpert/spec/831056266?ad; Category: Oscillators; Match Code: WE-SPXO; Mount: Surface Mount; Operating Temperature Max: 85°C; Operating Temperature Min: -40°C; Packaging: Tape and Reel; Case/Size Code: IQXO-794; Length: 2.5mm; Width: 2mm; Height: 1mm; Frequency: 20MHz; Supply Voltage: 1.8V
footprint WE-SPXO_IQXO-794
pins: 1 Standby, 2 GND, 3 Output, 4 +Vs

## 831056267
designator Y?, comment 24MHz, 1.8V  (value not drawn)
WE-SPXO Simple Packaged Quartz Oscillator, SMT, IQXO-794, 24MHz, 1.8V; Manufacturer Part Number: 831056267; Manufacturer: Wurth Elektronik; Frequency Stability: +/-50ppm; ComponentLink1Description: Website Link; ComponentLink1URL: https://www.we-online.com/redexpert/article/831056267?ad; ComponentLink2Description: Datasheet Link; ComponentLink2URL: https://www.we-online.com/redexpert/spec/831056267?ad; Category: Oscillators; Match Code: WE-SPXO; Mount: Surface Mount; Operating Temperature Max: 85°C; Operating Temperature Min: -40°C; Packaging: Tape and Reel; Case/Size Code: IQXO-794; Length: 2.5mm; Width: 2mm; Height: 1mm; Frequency: 24MHz; Supply Voltage: 1.8V
footprint WE-SPXO_IQXO-794
pins: 1 Standby, 2 GND, 3 Output, 4 +Vs

## 831056268
designator Y?, comment 24.576MHz, 1.8V  (value not drawn)
WE-SPXO Simple Packaged Quartz Oscillator, SMT, IQXO-794, 24.576MHz, 1.8V; Manufacturer Part Number: 831056268; Manufacturer: Wurth Elektronik; Frequency Stability: +/-50ppm; ComponentLink1Description: Website Link; ComponentLink1URL: https://www.we-online.com/redexpert/article/831056268?ad; ComponentLink2Description: Datasheet Link; ComponentLink2URL: https://www.we-online.com/redexpert/spec/831056268?ad; Category: Oscillators; Match Code: WE-SPXO; Mount: Surface Mount; Operating Temperature Max: 85°C; Operating Temperature Min: -40°C; Packaging: Tape and Reel; Case/Size Code: IQXO-794; Length: 2.5mm; Width: 2mm; Height: 1mm; Frequency: 24.576MHz; Supply Voltage: 1.8V
footprint WE-SPXO_IQXO-794
pins: 1 Standby, 2 GND, 3 Output, 4 +Vs

## 831056269
designator Y?, comment 25MHz, 1.8V  (value not drawn)
WE-SPXO Simple Packaged Quartz Oscillator, SMT, IQXO-794, 25MHz, 1.8V; Manufacturer Part Number: 831056269; Manufacturer: Wurth Elektronik; Frequency Stability: +/-50ppm; ComponentLink1Description: Website Link; ComponentLink1URL: https://www.we-online.com/redexpert/article/831056269?ad; ComponentLink2Description: Datasheet Link; ComponentLink2URL: https://www.we-online.com/redexpert/spec/831056269?ad; Category: Oscillators; Match Code: WE-SPXO; Mount: Surface Mount; Operating Temperature Max: 85°C; Operating Temperature Min: -40°C; Packaging: Tape and Reel; Case/Size Code: IQXO-794; Length: 2.5mm; Width: 2mm; Height: 1mm; Frequency: 25MHz; Supply Voltage: 1.8V
footprint WE-SPXO_IQXO-794
pins: 1 Standby, 2 GND, 3 Output, 4 +Vs

## 831056270
designator Y?, comment 26MHz, 1.8V  (value not drawn)
WE-SPXO Simple Packaged Quartz Oscillator, SMT, IQXO-794, 26MHz, 1.8V; Manufacturer Part Number: 831056270; Manufacturer: Wurth Elektronik; Frequency Stability: +/-50ppm; ComponentLink1Description: Website Link; ComponentLink1URL: https://www.we-online.com/redexpert/article/831056270?ad; ComponentLink2Description: Datasheet Link; ComponentLink2URL: https://www.we-online.com/redexpert/spec/831056270?ad; Category: Oscillators; Match Code: WE-SPXO; Mount: Surface Mount; Operating Temperature Max: 85°C; Operating Temperature Min: -40°C; Packaging: Tape and Reel; Case/Size Code: IQXO-794; Length: 2.5mm; Width: 2mm; Height: 1mm; Frequency: 26MHz; Supply Voltage: 1.8V
footprint WE-SPXO_IQXO-794
pins: 1 Standby, 2 GND, 3 Output, 4 +Vs

## 831056271
designator Y?, comment 27MHz, 1.8V  (value not drawn)
WE-SPXO Simple Packaged Quartz Oscillator, SMT, IQXO-794, 27MHz, 1.8V; Manufacturer Part Number: 831056271; Manufacturer: Wurth Elektronik; Frequency Stability: +/-50ppm; ComponentLink1Description: Website Link; ComponentLink1URL: https://www.we-online.com/redexpert/article/831056271?ad; ComponentLink2Description: Datasheet Link; ComponentLink2URL: https://www.we-online.com/redexpert/spec/831056271?ad; Category: Oscillators; Match Code: WE-SPXO; Mount: Surface Mount; Operating Temperature Max: 85°C; Operating Temperature Min: -40°C; Packaging: Tape and Reel; Case/Size Code: IQXO-794; Length: 2.5mm; Width: 2mm; Height: 1mm; Frequency: 27MHz; Supply Voltage: 1.8V
footprint WE-SPXO_IQXO-794
pins: 1 Standby, 2 GND, 3 Output, 4 +Vs

## 831056272
designator Y?, comment 40MHz, 1.8V  (value not drawn)
WE-SPXO Simple Packaged Quartz Oscillator, SMT, IQXO-794, 40MHz, 1.8V; Manufacturer Part Number: 831056272; Manufacturer: Wurth Elektronik; Frequency Stability: +/-50ppm; ComponentLink1Description: Website Link; ComponentLink1URL: https://www.we-online.com/redexpert/article/831056272?ad; ComponentLink2Description: Datasheet Link; ComponentLink2URL: https://www.we-online.com/redexpert/spec/831056272?ad; Category: Oscillators; Match Code: WE-SPXO; Mount: Surface Mount; Operating Temperature Max: 85°C; Operating Temperature Min: -40°C; Packaging: Tape and Reel; Case/Size Code: IQXO-794; Length: 2.5mm; Width: 2mm; Height: 1mm; Frequency: 40MHz; Supply Voltage: 1.8V
footprint WE-SPXO_IQXO-794
pins: 1 Standby, 2 GND, 3 Output, 4 +Vs

## 831056273
designator Y?, comment 48MHz, 1.8V  (value not drawn)
WE-SPXO Simple Packaged Quartz Oscillator, SMT, IQXO-794, 48MHz, 1.8V; Manufacturer Part Number: 831056273; Manufacturer: Wurth Elektronik; Frequency Stability: +/-50ppm; ComponentLink1Description: Website Link; ComponentLink1URL: https://www.we-online.com/redexpert/article/831056273?ad; ComponentLink2Description: Datasheet Link; ComponentLink2URL: https://www.we-online.com/redexpert/spec/831056273?ad; Category: Oscillators; Match Code: WE-SPXO; Mount: Surface Mount; Operating Temperature Max: 85°C; Operating Temperature Min: -40°C; Packaging: Tape and Reel; Case/Size Code: IQXO-794; Length: 2.5mm; Width: 2mm; Height: 1mm; Frequency: 48MHz; Supply Voltage: 1.8V
footprint WE-SPXO_IQXO-794
pins: 1 Standby, 2 GND, 3 Output, 4 +Vs

## 831056274
designator Y?, comment 50MHz, 1.8V  (value not drawn)
WE-SPXO Simple Packaged Quartz Oscillator, SMT, IQXO-794, 50MHz, 1.8V; Manufacturer Part Number: 831056274; Manufacturer: Wurth Elektronik; Frequency Stability: +/-50ppm; ComponentLink1Description: Website Link; ComponentLink1URL: https://www.we-online.com/redexpert/article/831056274?ad; ComponentLink2Description: Datasheet Link; ComponentLink2URL: https://www.we-online.com/redexpert/spec/831056274?ad; Category: Oscillators; Match Code: WE-SPXO; Mount: Surface Mount; Operating Temperature Max: 85°C; Operating Temperature Min: -40°C; Packaging: Tape and Reel; Case/Size Code: IQXO-794; Length: 2.5mm; Width: 2mm; Height: 1mm; Frequency: 50MHz; Supply Voltage: 1.8V
footprint WE-SPXO_IQXO-794
pins: 1 Standby, 2 GND, 3 Output, 4 +Vs

## 831056289
designator Y?, comment 12MHz, 3.3V  (value not drawn)
WE-SPXO Simple Packaged Quartz Oscillator, SMT, IQXO-791, 12MHz, 3.3V; Manufacturer Part Number: 831056289; Manufacturer: Wurth Elektronik; Frequency Stability: +/-50ppm; ComponentLink1Description: Website Link; ComponentLink1URL: https://www.we-online.com/redexpert/article/831056289?ad; ComponentLink2Description: Datasheet Link; ComponentLink2URL: https://www.we-online.com/redexpert/spec/831056289?ad; Category: Oscillators; Match Code: WE-SPXO; Mount: Surface Mount; Operating Temperature Max: 85°C; Operating Temperature Min: -40°C; Packaging: Tape and Reel; Case/Size Code: IQXO-791; Length: 2.5mm; Width: 2mm; Height: 1mm; Frequency: 12MHz; Supply Voltage: 3.3V
footprint WE-SPXO_IQXO-791
pins: 1 Enable, 2 GND, 3 Output, 4 +Vs

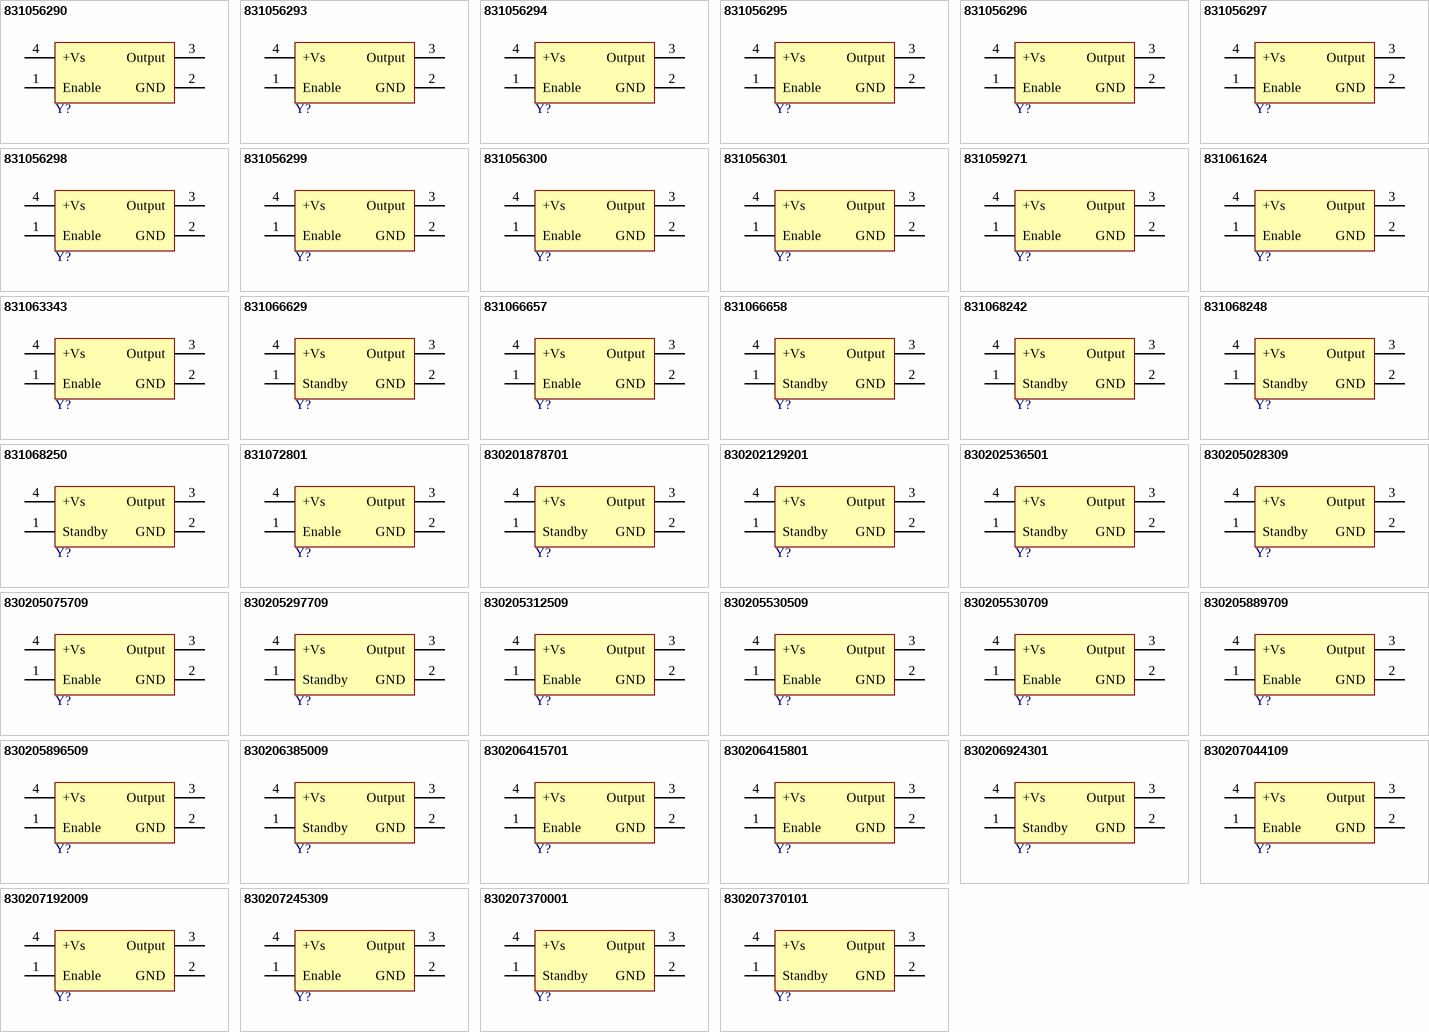
[diagram p3: symbols 831056290 to 830207370101]

## 831056290
designator Y?, comment 13MHz, 3.3V  (value not drawn)
WE-SPXO Simple Packaged Quartz Oscillator, SMT, IQXO-791, 13MHz, 3.3V; Manufacturer Part Number: 831056290; Manufacturer: Wurth Elektronik; Frequency Stability: +/-50ppm; ComponentLink1Description: Website Link; ComponentLink1URL: https://www.we-online.com/redexpert/article/831056290?ad; ComponentLink2Description: Datasheet Link; ComponentLink2URL: https://www.we-online.com/redexpert/spec/831056290?ad; Category: Oscillators; Match Code: WE-SPXO; Mount: Surface Mount; Operating Temperature Max: 85°C; Operating Temperature Min: -40°C; Packaging: Tape and Reel; Case/Size Code: IQXO-791; Length: 2.5mm; Width: 2mm; Height: 1mm; Frequency: 13MHz; Supply Voltage: 3.3V
footprint WE-SPXO_IQXO-791
pins: 1 Enable, 2 GND, 3 Output, 4 +Vs

## 831056293
designator Y?, comment 20MHz, 3.3V  (value not drawn)
WE-SPXO Simple Packaged Quartz Oscillator, SMT, IQXO-791, 20MHz, 3.3V; Manufacturer Part Number: 831056293; Manufacturer: Wurth Elektronik; Frequency Stability: +/-50ppm; ComponentLink1Description: Website Link; ComponentLink1URL: https://www.we-online.com/redexpert/article/831056293?ad; ComponentLink2Description: Datasheet Link; ComponentLink2URL: https://www.we-online.com/redexpert/spec/831056293?ad; Category: Oscillators; Match Code: WE-SPXO; Mount: Surface Mount; Operating Temperature Max: 85°C; Operating Temperature Min: -40°C; Packaging: Tape and Reel; Case/Size Code: IQXO-791; Length: 2.5mm; Width: 2mm; Height: 1mm; Frequency: 20MHz; Supply Voltage: 3.3V
footprint WE-SPXO_IQXO-791
pins: 1 Enable, 2 GND, 3 Output, 4 +Vs